# EAGLE library part CP2102-GMR (library CP2102-GMR)
I/O Controller Interface IC USB-TO-UART BRIDGE, qfn-28 Source: Datasheet <https://www.silabs.com/Support Documents/TechnicalDocs/CP2102-9.pdf>
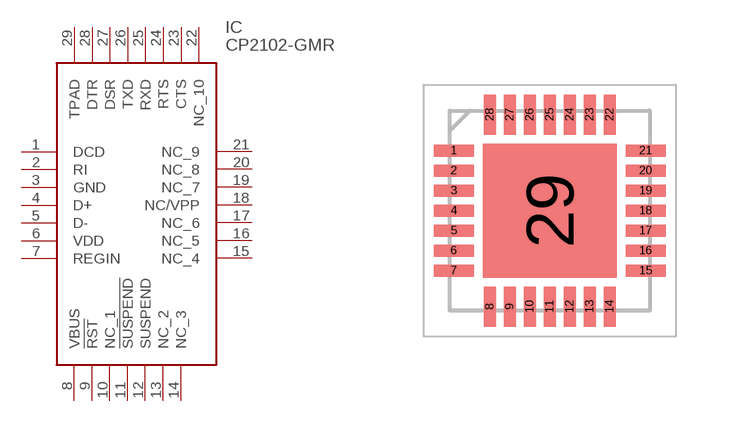
[diagram p0: symbol with the pads of QFN50P500X500X100-29N; footprint QFN50P500X500X100-29N]

Designator prefix IC

## CP2102-GMR (Arrow_Part_Number: CP2102-GMR; Arrow_Price-Stock: https://www.arrow.com/en/products/cp2102-gmr/silicon-labs?region=nac; Description: I/O Controller Interface IC USB-TO-UART BRIDGE, qfn-28; Height: 1mm; Manufacturer_Name: Silicon Labs; Manufacturer_Part_Number: CP2102-GMR; Mouser_Part_Number: 634-CP2102-GMR; Mouser_Price-Stock: https://www.mouser.co.uk/ProductDetail/Silicon-Labs/CP2102-GMR?qs=cNyzPCcHMUWu%2FiPhR8KQAw%3D%3D)  [QFN50P500X500X100-29N]
1  DCD
2  RI
3  GND
4  D+
5  D-
6  VDD
7  REGIN
8  VBUS
9  !RST
10  NC_1
11  !SUSPEND
12  SUSPEND
13  NC_2
14  NC_3
15  NC_4
16  NC_5
17  NC_6
18  NC/VPP
19  NC_7
20  NC_8
21  NC_9
22  NC_10
23  CTS
24  RTS
25  RXD
26  TXD
27  DSR
28  DTR
29  TPAD

## Footprint QFN50P500X500X100-29N (pad centres in mm)
QFN-28_1
smd 1 x 0.3: 1 -2.4,1.5; 2 -2.4,1; 3 -2.4,0.5; 4 -2.4,0; 5 -2.4,-0.5; 6 -2.4,-1; 7 -2.4,-1.5; 15 2.4,-1.5; 16 2.4,-1; 17 2.4,-0.5; 18 2.4,0; 19 2.4,0.5; 20 2.4,1; 21 2.4,1.5
smd 0.3 x 1: 8 -1.5,-2.4; 9 -1,-2.4; 10 -0.5,-2.4; 11 0,-2.4; 12 0.5,-2.4; 13 1,-2.4; 14 1.5,-2.4; 22 1.5,2.4; 23 1,2.4; 24 0.5,2.4; 25 0,2.4; 26 -0.5,2.4; 27 -1,2.4; 28 -1.5,2.4
smd 3.35 x 3.35: 29 0,0